# Altium footprint library LM276.PcbLib: 1 footprints
Each footprint in its own frame and in the unit in brackets; x right, y up, seen from the top. Pads: shape width x height; smd on the part's side, far side on the other; paste and mask are expansions set on the pad; w line width, h text height; cw(c..) or ccw(c..) is an arc to the next point about the centre after c.
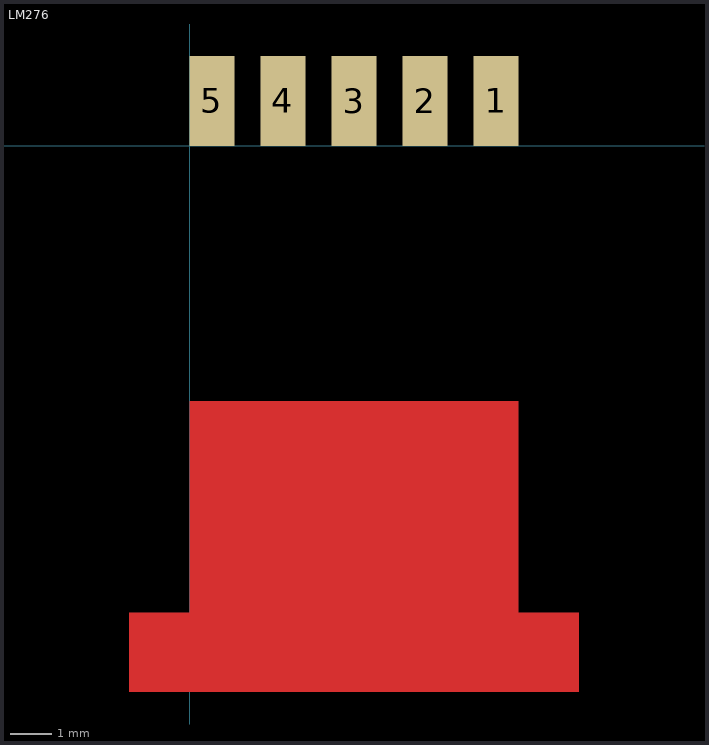
[diagram p0: the footprint, top view; thin cyan lines are the x and y axes]

## LM276 [mil]
pads (5):
  rect 42x85 smd: 1(289,42.5) 2(222,42.5) 3(155,42.5) 4(88,42.5) 5(21,42.5)
Top Layer:
  rectangle: 0,-440.5 310,-240.5
  rectangle: -57.5,-515.5 367.5,-440.5